# EAGLE library part AK500/11 (library con-ptr500)
CONNECTOR
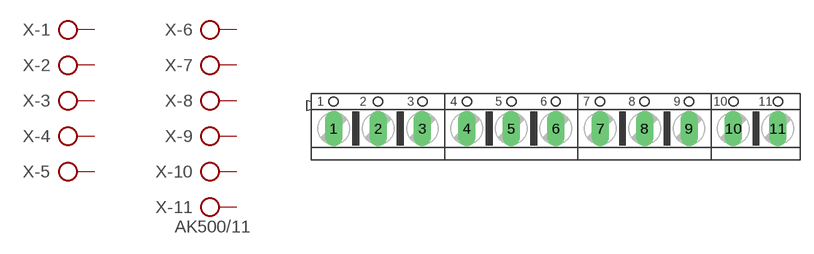
[diagram p18: symbol with the pads of AK500/11; footprint AK500/11]

Designator prefix X; gates -1=KL -2=KL -3=KL -4=KL -5=KL -6=KL -7=KL -8=KL -9=KL -10=KL -11=KLV

## AK500/11 (OC_FARNELL: unknown; OC_NEWARK: unknown)  [AK500/11]
1  -1:KL  pas
2  -2:KL  pas
3  -3:KL  pas
4  -4:KL  pas
5  -5:KL  pas
6  -6:KL  pas
7  -7:KL  pas
8  -8:KL  pas
9  -9:KL  pas
10  -10:KL  pas
11  -11:KL  pas

## Footprint AK500/11 (pad centres in mm)
CONNECTOR
drill 1.321 long: 1 -25.019,0; 2 -20.015,0; 3 -15.011,0; 4 -10.008,0; 5 -5.004,0; 6 0,0; 7 5.004,0; 8 10.008,0; 9 15.011,0; 10 20.015,0; 11 25.019,0